# EAGLE library part MCP9808 (library common)
I²C thermometer
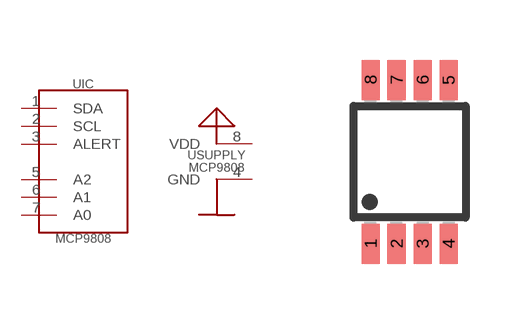
[diagram p14: symbol with the pads of MSOP8; footprint MSOP8]

Designator prefix -; gates IC=MCP9808 SUPPLY=SUPPLY

## MCP9808MSOP  [MSOP8]
1  IC:SDA
2  IC:SCL
3  IC:ALERT  oc
4  SUPPLY:GND  pwr
5  IC:A2  in
6  IC:A1  in
7  IC:A0  in
8  SUPPLY:VDD  pwr

## Footprint MSOP8 (pad centres in mm)
Micro Small Outline Package Grid 0.65mm Source: http://ww1.microchip.com/downloads/en/DeviceDoc/21796H.pdf
smd 0.45 x 1: 1 -0.975,-2.05; 2 -0.325,-2.05; 3 0.325,-2.05; 4 0.975,-2.05; 5 0.975,2.05; 6 0.325,2.05; 7 -0.325,2.05; 8 -0.975,2.05